# Altium schematic symbol library TBP03R2-350-08BE.SchLib: 1 symbol
Pins are listed as number, name and electrical type; pins without a type are passive.

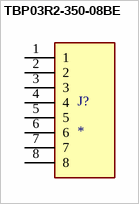
[diagram p0: symbol TBP03R2-350-08BE]

## TBP03R2-350-08BE
designator J?
2~24 Poles, Pluggable, Receptacle, Vertical, 3.50 Pitch, Terminal Block Connector; MF: Same Sky; MP: TBP03R2-350-08BE; SnapEDA_Link: https://www.snapeda.com/parts/TBP03R2-350-08BE/Same+Sky/view-part/?ref=snap; Package: None; Value: *; Check_prices: https://www.snapeda.com/parts/TBP03R2-350-08BE/Same+Sky/view-part/?ref=eda
footprint CUI_TBP03R2-350-08BE
pins: 1, 2, 3, 4, 5, 6, 7, 8